# Altium integrated library Linear Technology Power Management Switching Regulator LTC1174-LTC3901.IntLib: 2647 symbols (part 270 of 364)
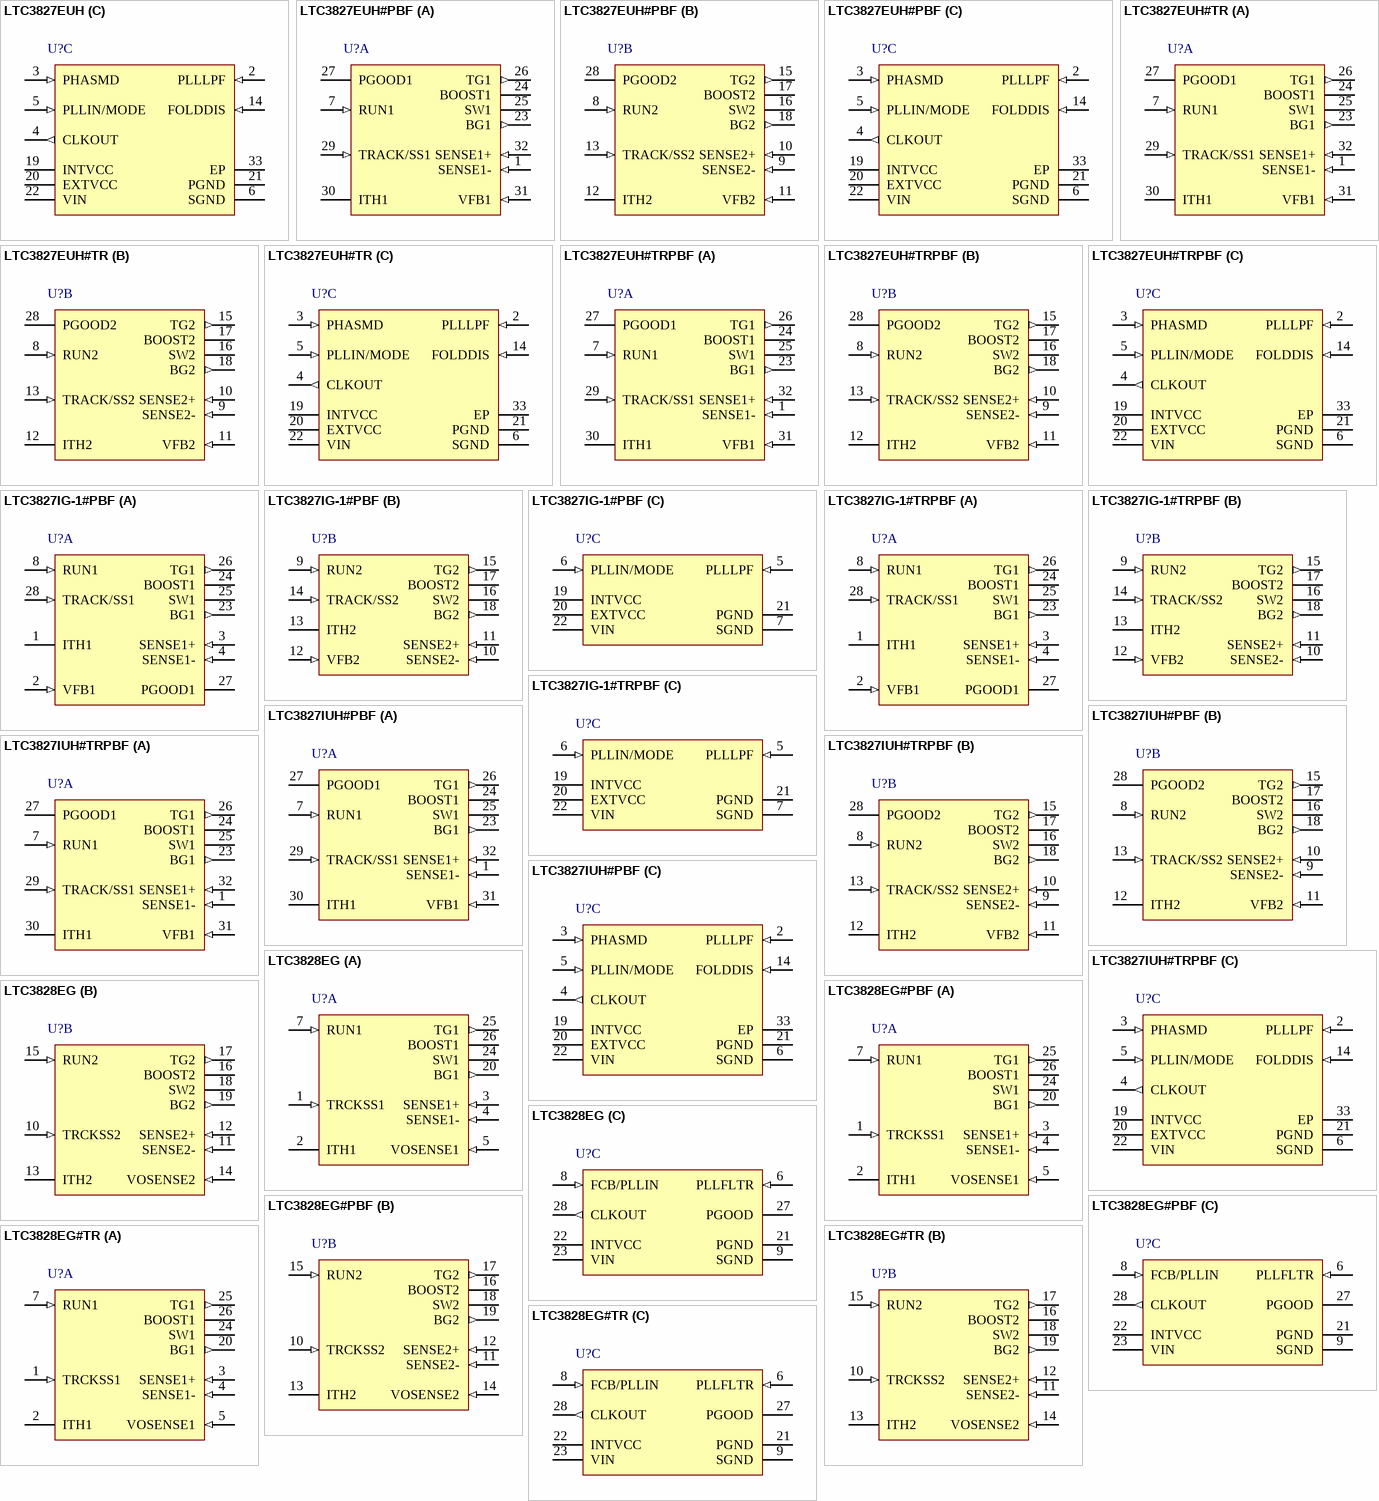
[diagram p255: symbols LTC3827EUH to LTC3828EG#TR]

## LTC3828EG#PBF
designator U?
Dual, 2-Phase Step-Down Controller with Tracking, 28-pin SOP (G-28), -40 to 85 degC, Pb-Free; Manufacturer: Linear Technology; PartNumber: LTC3828EG#PBF; Frequency Sync Range: 260kHz - 550kHz; Number of Outputs: 1; DatasheetVersion: Rev. C; PackageVersion: Jun-10; PackageReference: G-28; PackageDescription: 28-Pin Plastic SSOP, Body 10.2 x 5.3 mm, Pitch 0.65 mm; Supplier 1: Digi-Key; Supplier Part Number 1: LTC3828EG#PBF-ND; Supplier 2: Farnell; Supplier Part Number 2: 2295162; RoHS: TRUE; Mounting Technology: Surface Mount; ComponentLink1Description: Manufacturer URL; ComponentLink1URL: http://www.linear.com/; ComponentLink2Description: Datasheet; ComponentLink2URL: http://cds.linear.com/docs/en/datasheet/3828fc.pdf; ComponentLink3Description: Package Specification; ComponentLink3URL: http://cds.linear.com/docs/en/packaging/SSOP_28_05-08-1640.pdf
footprint LT-G-28_N (SOP, 28-Leads, Body 10.2x5.3mm, Pitch 0.65mm, IPC Medium Density)
footprint LT-G-28_L (SOP, 28-Leads, Body 10.2x5.3mm, Pitch 0.65mm, IPC High Density)
footprint LT-G-28_M (SOP, 28-Leads, Body 10.2x5.3mm, Pitch 0.65mm, IPC Low Density)
part A pins: 1 TRCKSS1 (in) "Soft-Start and Output Voltage Tracking Inputs. When one channel is confi gured to be the master of two outputs a capacitor to ground at this pin sets the ramp rate. The slave channel tracks the output of the master channel (See Datasheet)", 2 ITH1 "Error Amplifier Output and Switching Regulator Compensation Point. Each associated channels?current comparator trip point increases with this control voltage.", 3 SENSE1+ (in) "The (+) Input to the Differential Current Comparators. The ITH pin voltage and controlled offsets between the SENSE- and SENSE+ pins in conjunction with RSENSE set the current trip threshold.", 4 SENSE1- (in) "The (-) Input to the Differential Current Comparators.", 5 VOSENSE1 (in) "Error Amplifier Feedback Input. Receives the remotely-sensed feedback voltage for each controller from an external resistive divider across the output.", 7 RUN1 (in) "Run Control Inputs. Forcing RUN pins below 1V would shut down the circuitry required for that particular channel. Forcing the RUN pins over 2V would turn on the IC.", 20 BG1 (out) "High Current Gate Drives for Bottom (Synchronous) N-Channel MOSFETs. Voltage swing at these pins is from ground to INTVCC.", 24 SW1 "Switch Node Connections to Inductors. Voltage swing at these pins is from a Schottky diode (external) voltage drop below ground to VIN.", 25 TG1 (out) "High Current Gate Drives for Top N-Channel MOSFETs. These are the outputs of floating drivers with a voltage swing equal to INTVCC- 0.5V superimposed on the switch node voltage SW.", 26 BOOST1 "Bootstrapped Supplies to the Topside Floating Drivers. Capacitors are connected between the boost and switch pins and Schottky diodes are tied between the boost and INTVCC pins. Voltage swing at the boost pins is from INTVCC (See Datasheet)"
part B pins: 10 TRCKSS2 (in) "Soft-Start and Output Voltage Tracking Inputs. When one channel is configured to be the master of two outputs a capacitor to ground at this pin sets the ramp rate. The slave channel tracks the output of the master channel by (See Datasheet)", 11 SENSE2- (in) "The (-) Input to the Differential Current Comparators.", 12 SENSE2+ (in) "The (+) Input to the Differential Current Comparators. The ITH pin voltage and controlled offsets between the SENSE- and SENSE+ pins in conjunction with RSENSE set the current trip threshold.", 13 ITH2 "Error Amplifier Output and Switching Regulator Compensation Point. Each associated channels?current comparator trip point increases with this control voltage.", 14 VOSENSE2 (in) "Error Amplifier Feedback Input. Receives the remotely-sensed feedback voltage for each controller from an external resistive divider across the output.", 15 RUN2 (in) "Run Control Inputs. Forcing RUN pins below 1V would shut down the circuitry required for that particular channel. Forcing the RUN pins over 2V would turn on the IC.", 16 BOOST2 "Bootstrapped Supplies to the Topside Floating Drivers. Capacitors are connected between the boost and switch pins and Schottky diodes are tied between the boost and INTVCC pins. Voltage swing at the boost pins is from INTVCC (See Datasheet)", 17 TG2 (out) "High Current Gate Drives for Top N-Channel MOSFETs. These are the outputs of floating drivers with a voltage swing equal to INTVCC- 0.5V superimposed on the switch node voltage SW.", 18 SW2 "Switch Node Connections to Inductors. Voltage swing at these pins is from a Schottky diode (external) voltage drop below ground to VIN.", 19 BG2 (out) "High Current Gate Drives for Bottom (Synchronous) N-Channel MOSFETs. Voltage swing at these pins is from ground to INTVCC."
part C pins: 6 PLLFLTR (in) "Filter Connection for Phase-Locked Loop. Alternatively, this pin can be driven with an AC or DC voltage source to vary the frequency of the internal oscillator.", 8 FCB/PLLIN (in) "Forced Continuous Control Input and External Synchronization Input to Phase Detector. Pulling this pin below 0.8V will force continuous synchronous operation. Feeding an external clock signal will synchronize the LTC3828 to (See Datasheet)", 9 SGND (power) "Small-Signal Ground. Common to both controllers, this pin must be routed separately from high current grounds to the common (-) terminals of the COUT capacitors.", 21 PGND (power) "Driver Power Ground. Connects to the sources of bottom (synchronous) N-channel MOSFETs, anodes of the Schottky rectifiers and the (-) terminal(s) of CIN.", 22 INTVCC (power) "Output of the Internal 5V Linear Low Dropout Regulator. The driver and control circuits are powered from this voltage source. Must be decoupled to power ground with a minimum of 4.7uF tantalum or other low ESR capacitor.", 23 VIN (power) "Main Supply Pin. A bypass capacitor should be tied between this pin and the signal ground pin.", 27 PGOOD (oc) "Open-Drain Logic Output. PGOOD is pulled to ground when the voltage on either VOSENSE pin is not within +/-7.5% of its set point.", 28 CLKOUT (out) "Output clock signal available to daisy-chain other controller ICs for additional MOSFET driver stages/phases."

## LTC3828EG#TR
designator U?
Dual, 2-Phase Step-Down Controller with Tracking, 28-pin SOP (G-28), -40 to 85 degC, Tape and Reel; Manufacturer: Linear Technology; PartNumber: LTC3828EG#TR; Frequency Sync Range: 260kHz - 550kHz; Number of Outputs: 1; DatasheetVersion: Rev. C; PackageVersion: Jun-10; PackageReference: G-28; PackageDescription: 28-Pin Plastic SSOP, Body 10.2 x 5.3 mm, Pitch 0.65 mm; Packing: Tape and Reel; RoHS: FALSE; Mounting Technology: Surface Mount; ComponentLink1Description: Manufacturer URL; ComponentLink1URL: http://www.linear.com/; ComponentLink2Description: Datasheet; ComponentLink2URL: http://cds.linear.com/docs/en/datasheet/3828fc.pdf; ComponentLink3Description: Package Specification; ComponentLink3URL: http://cds.linear.com/docs/en/packaging/SSOP_28_05-08-1640.pdf
footprint LT-G-28_N (SOP, 28-Leads, Body 10.2x5.3mm, Pitch 0.65mm, IPC Medium Density)
footprint LT-G-28_L (SOP, 28-Leads, Body 10.2x5.3mm, Pitch 0.65mm, IPC High Density)
footprint LT-G-28_M (SOP, 28-Leads, Body 10.2x5.3mm, Pitch 0.65mm, IPC Low Density)
part A pins: 1 TRCKSS1 (in) "Soft-Start and Output Voltage Tracking Inputs. When one channel is confi gured to be the master of two outputs a capacitor to ground at this pin sets the ramp rate. The slave channel tracks the output of the master channel (See Datasheet)", 2 ITH1 "Error Amplifier Output and Switching Regulator Compensation Point. Each associated channels?current comparator trip point increases with this control voltage.", 3 SENSE1+ (in) "The (+) Input to the Differential Current Comparators. The ITH pin voltage and controlled offsets between the SENSE- and SENSE+ pins in conjunction with RSENSE set the current trip threshold.", 4 SENSE1- (in) "The (-) Input to the Differential Current Comparators.", 5 VOSENSE1 (in) "Error Amplifier Feedback Input. Receives the remotely-sensed feedback voltage for each controller from an external resistive divider across the output.", 7 RUN1 (in) "Run Control Inputs. Forcing RUN pins below 1V would shut down the circuitry required for that particular channel. Forcing the RUN pins over 2V would turn on the IC.", 20 BG1 (out) "High Current Gate Drives for Bottom (Synchronous) N-Channel MOSFETs. Voltage swing at these pins is from ground to INTVCC.", 24 SW1 "Switch Node Connections to Inductors. Voltage swing at these pins is from a Schottky diode (external) voltage drop below ground to VIN.", 25 TG1 (out) "High Current Gate Drives for Top N-Channel MOSFETs. These are the outputs of floating drivers with a voltage swing equal to INTVCC- 0.5V superimposed on the switch node voltage SW.", 26 BOOST1 "Bootstrapped Supplies to the Topside Floating Drivers. Capacitors are connected between the boost and switch pins and Schottky diodes are tied between the boost and INTVCC pins. Voltage swing at the boost pins is from INTVCC (See Datasheet)"
part B pins: 10 TRCKSS2 (in) "Soft-Start and Output Voltage Tracking Inputs. When one channel is configured to be the master of two outputs a capacitor to ground at this pin sets the ramp rate. The slave channel tracks the output of the master channel by (See Datasheet)", 11 SENSE2- (in) "The (-) Input to the Differential Current Comparators.", 12 SENSE2+ (in) "The (+) Input to the Differential Current Comparators. The ITH pin voltage and controlled offsets between the SENSE- and SENSE+ pins in conjunction with RSENSE set the current trip threshold.", 13 ITH2 "Error Amplifier Output and Switching Regulator Compensation Point. Each associated channels?current comparator trip point increases with this control voltage.", 14 VOSENSE2 (in) "Error Amplifier Feedback Input. Receives the remotely-sensed feedback voltage for each controller from an external resistive divider across the output.", 15 RUN2 (in) "Run Control Inputs. Forcing RUN pins below 1V would shut down the circuitry required for that particular channel. Forcing the RUN pins over 2V would turn on the IC.", 16 BOOST2 "Bootstrapped Supplies to the Topside Floating Drivers. Capacitors are connected between the boost and switch pins and Schottky diodes are tied between the boost and INTVCC pins. Voltage swing at the boost pins is from INTVCC (See Datasheet)", 17 TG2 (out) "High Current Gate Drives for Top N-Channel MOSFETs. These are the outputs of floating drivers with a voltage swing equal to INTVCC- 0.5V superimposed on the switch node voltage SW.", 18 SW2 "Switch Node Connections to Inductors. Voltage swing at these pins is from a Schottky diode (external) voltage drop below ground to VIN.", 19 BG2 (out) "High Current Gate Drives for Bottom (Synchronous) N-Channel MOSFETs. Voltage swing at these pins is from ground to INTVCC."
part C pins: 6 PLLFLTR (in) "Filter Connection for Phase-Locked Loop. Alternatively, this pin can be driven with an AC or DC voltage source to vary the frequency of the internal oscillator.", 8 FCB/PLLIN (in) "Forced Continuous Control Input and External Synchronization Input to Phase Detector. Pulling this pin below 0.8V will force continuous synchronous operation. Feeding an external clock signal will synchronize the LTC3828 to (See Datasheet)", 9 SGND (power) "Small-Signal Ground. Common to both controllers, this pin must be routed separately from high current grounds to the common (-) terminals of the COUT capacitors.", 21 PGND (power) "Driver Power Ground. Connects to the sources of bottom (synchronous) N-channel MOSFETs, anodes of the Schottky rectifiers and the (-) terminal(s) of CIN.", 22 INTVCC (power) "Output of the Internal 5V Linear Low Dropout Regulator. The driver and control circuits are powered from this voltage source. Must be decoupled to power ground with a minimum of 4.7uF tantalum or other low ESR capacitor.", 23 VIN (power) "Main Supply Pin. A bypass capacitor should be tied between this pin and the signal ground pin.", 27 PGOOD (oc) "Open-Drain Logic Output. PGOOD is pulled to ground when the voltage on either VOSENSE pin is not within +/-7.5% of its set point.", 28 CLKOUT (out) "Output clock signal available to daisy-chain other controller ICs for additional MOSFET driver stages/phases."

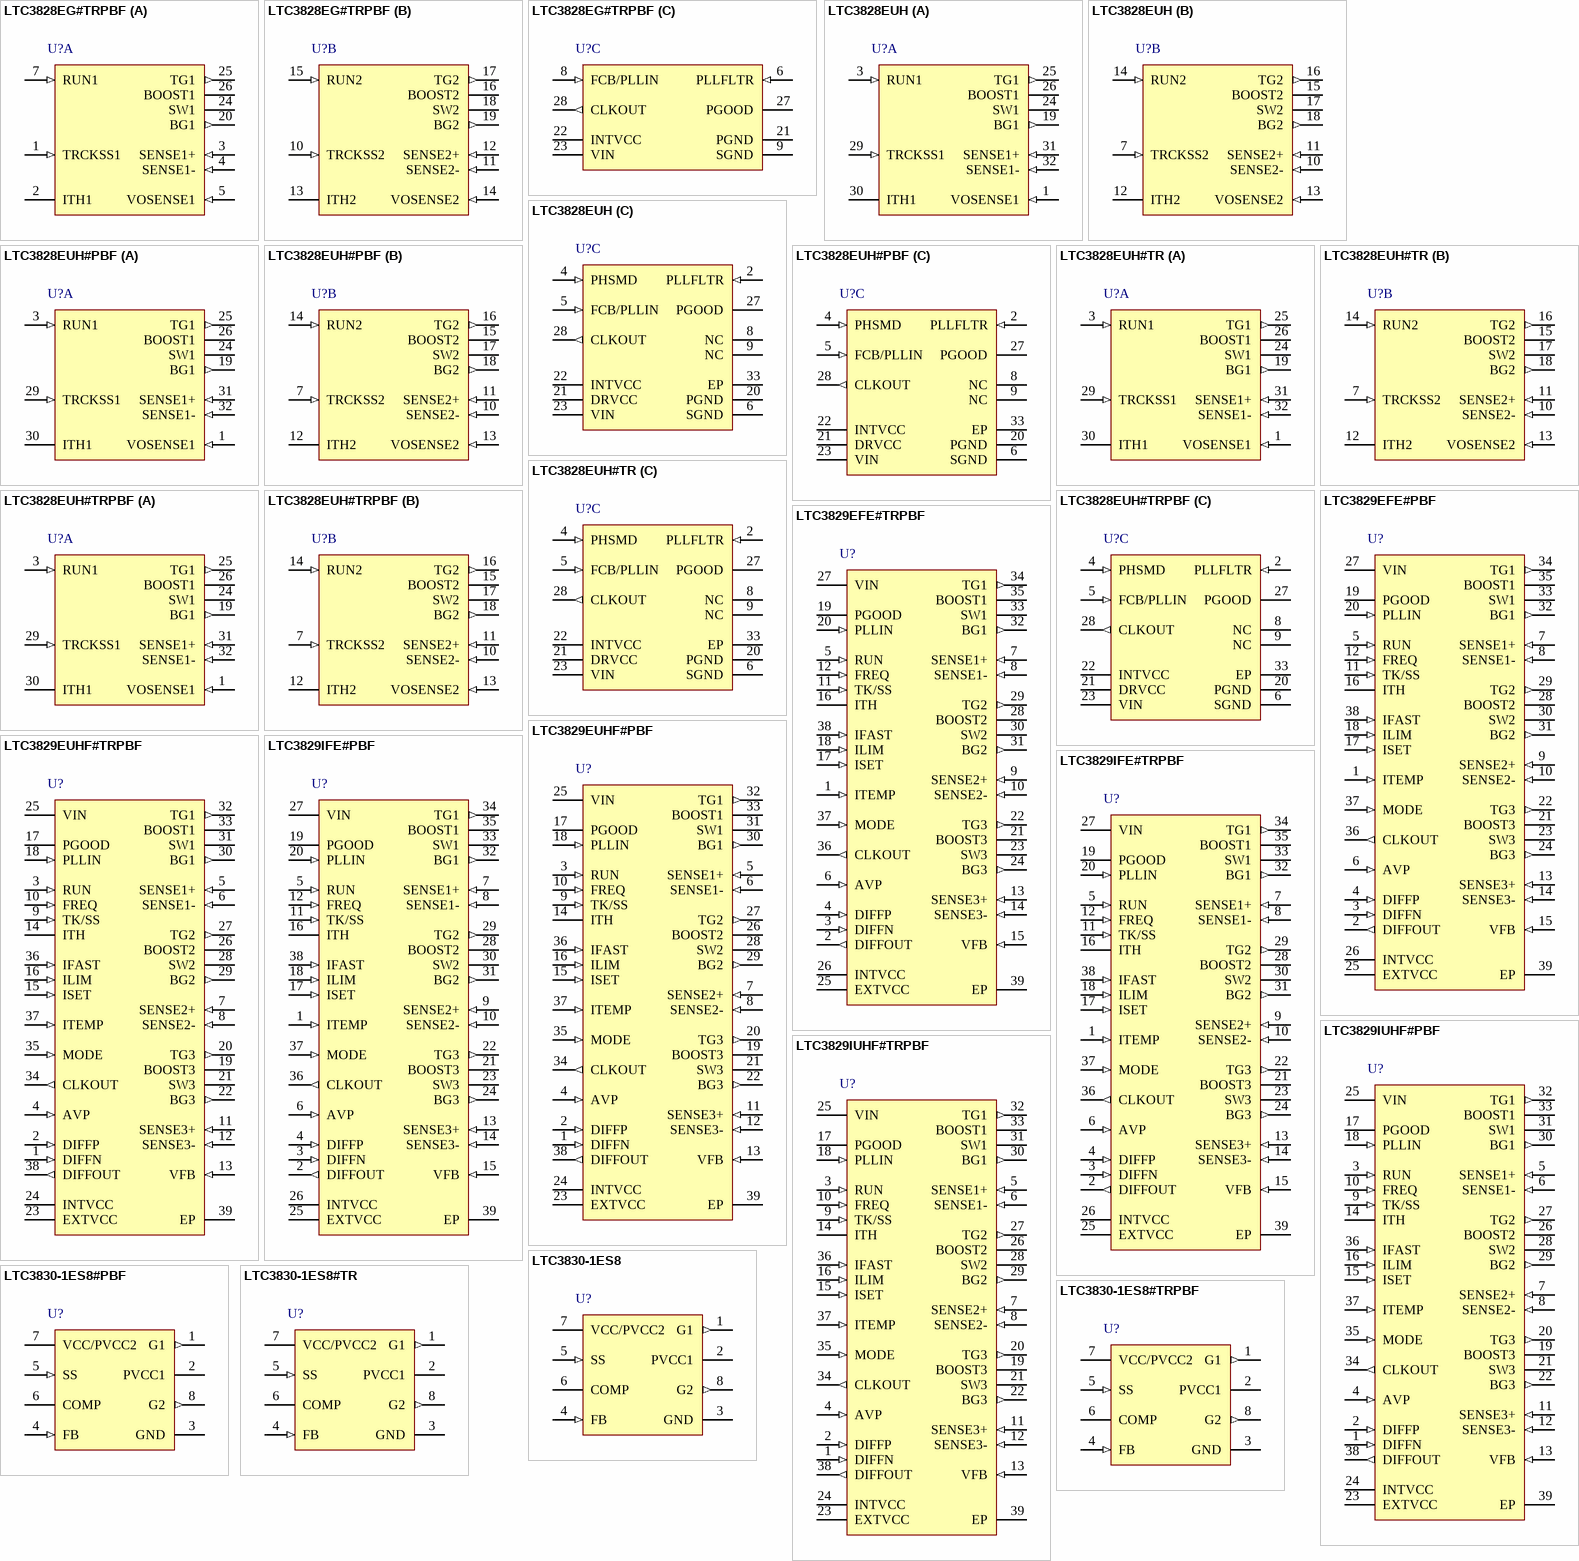
[diagram p84: symbols LTC3828EG#TRPBF to LTC3830-1ES8#TRPBF]

## LTC3828EG#TRPBF
designator U?
Dual, 2-Phase Step-Down Controller with Tracking, 28-pin SOP (G-28), -40 to 85 degC, Pb-Free, Tape and Reel; Manufacturer: Linear Technology; PartNumber: LTC3828EG#TRPBF; Frequency Sync Range: 260kHz - 550kHz; Number of Outputs: 1; DatasheetVersion: Rev. C; PackageVersion: Jun-10; PackageReference: G-28; PackageDescription: 28-Pin Plastic SSOP, Body 10.2 x 5.3 mm, Pitch 0.65 mm; Supplier 1: Digi-Key; Supplier Part Number 1: LTC3828EG#TRPBF-ND; Packing: Tape and Reel; RoHS: TRUE; Mounting Technology: Surface Mount; ComponentLink1Description: Manufacturer URL; ComponentLink1URL: http://www.linear.com/; ComponentLink2Description: Datasheet; ComponentLink2URL: http://cds.linear.com/docs/en/datasheet/3828fc.pdf; ComponentLink3Description: Package Specification; ComponentLink3URL: http://cds.linear.com/docs/en/packaging/SSOP_28_05-08-1640.pdf
footprint LT-G-28_N (SOP, 28-Leads, Body 10.2x5.3mm, Pitch 0.65mm, IPC Medium Density)
footprint LT-G-28_L (SOP, 28-Leads, Body 10.2x5.3mm, Pitch 0.65mm, IPC High Density)
footprint LT-G-28_M (SOP, 28-Leads, Body 10.2x5.3mm, Pitch 0.65mm, IPC Low Density)
part A pins: 1 TRCKSS1 (in) "Soft-Start and Output Voltage Tracking Inputs. When one channel is confi gured to be the master of two outputs a capacitor to ground at this pin sets the ramp rate. The slave channel tracks the output of the master channel (See Datasheet)", 2 ITH1 "Error Amplifier Output and Switching Regulator Compensation Point. Each associated channels?current comparator trip point increases with this control voltage.", 3 SENSE1+ (in) "The (+) Input to the Differential Current Comparators. The ITH pin voltage and controlled offsets between the SENSE- and SENSE+ pins in conjunction with RSENSE set the current trip threshold.", 4 SENSE1- (in) "The (-) Input to the Differential Current Comparators.", 5 VOSENSE1 (in) "Error Amplifier Feedback Input. Receives the remotely-sensed feedback voltage for each controller from an external resistive divider across the output.", 7 RUN1 (in) "Run Control Inputs. Forcing RUN pins below 1V would shut down the circuitry required for that particular channel. Forcing the RUN pins over 2V would turn on the IC.", 20 BG1 (out) "High Current Gate Drives for Bottom (Synchronous) N-Channel MOSFETs. Voltage swing at these pins is from ground to INTVCC.", 24 SW1 "Switch Node Connections to Inductors. Voltage swing at these pins is from a Schottky diode (external) voltage drop below ground to VIN.", 25 TG1 (out) "High Current Gate Drives for Top N-Channel MOSFETs. These are the outputs of floating drivers with a voltage swing equal to INTVCC- 0.5V superimposed on the switch node voltage SW.", 26 BOOST1 "Bootstrapped Supplies to the Topside Floating Drivers. Capacitors are connected between the boost and switch pins and Schottky diodes are tied between the boost and INTVCC pins. Voltage swing at the boost pins is from INTVCC (See Datasheet)"
part B pins: 10 TRCKSS2 (in) "Soft-Start and Output Voltage Tracking Inputs. When one channel is configured to be the master of two outputs a capacitor to ground at this pin sets the ramp rate. The slave channel tracks the output of the master channel by (See Datasheet)", 11 SENSE2- (in) "The (-) Input to the Differential Current Comparators.", 12 SENSE2+ (in) "The (+) Input to the Differential Current Comparators. The ITH pin voltage and controlled offsets between the SENSE- and SENSE+ pins in conjunction with RSENSE set the current trip threshold.", 13 ITH2 "Error Amplifier Output and Switching Regulator Compensation Point. Each associated channels?current comparator trip point increases with this control voltage.", 14 VOSENSE2 (in) "Error Amplifier Feedback Input. Receives the remotely-sensed feedback voltage for each controller from an external resistive divider across the output.", 15 RUN2 (in) "Run Control Inputs. Forcing RUN pins below 1V would shut down the circuitry required for that particular channel. Forcing the RUN pins over 2V would turn on the IC.", 16 BOOST2 "Bootstrapped Supplies to the Topside Floating Drivers. Capacitors are connected between the boost and switch pins and Schottky diodes are tied between the boost and INTVCC pins. Voltage swing at the boost pins is from INTVCC (See Datasheet)", 17 TG2 (out) "High Current Gate Drives for Top N-Channel MOSFETs. These are the outputs of floating drivers with a voltage swing equal to INTVCC- 0.5V superimposed on the switch node voltage SW.", 18 SW2 "Switch Node Connections to Inductors. Voltage swing at these pins is from a Schottky diode (external) voltage drop below ground to VIN.", 19 BG2 (out) "High Current Gate Drives for Bottom (Synchronous) N-Channel MOSFETs. Voltage swing at these pins is from ground to INTVCC."
part C pins: 6 PLLFLTR (in) "Filter Connection for Phase-Locked Loop. Alternatively, this pin can be driven with an AC or DC voltage source to vary the frequency of the internal oscillator.", 8 FCB/PLLIN (in) "Forced Continuous Control Input and External Synchronization Input to Phase Detector. Pulling this pin below 0.8V will force continuous synchronous operation. Feeding an external clock signal will synchronize the LTC3828 to (See Datasheet)", 9 SGND (power) "Small-Signal Ground. Common to both controllers, this pin must be routed separately from high current grounds to the common (-) terminals of the COUT capacitors.", 21 PGND (power) "Driver Power Ground. Connects to the sources of bottom (synchronous) N-channel MOSFETs, anodes of the Schottky rectifiers and the (-) terminal(s) of CIN.", 22 INTVCC (power) "Output of the Internal 5V Linear Low Dropout Regulator. The driver and control circuits are powered from this voltage source. Must be decoupled to power ground with a minimum of 4.7uF tantalum or other low ESR capacitor.", 23 VIN (power) "Main Supply Pin. A bypass capacitor should be tied between this pin and the signal ground pin.", 27 PGOOD (oc) "Open-Drain Logic Output. PGOOD is pulled to ground when the voltage on either VOSENSE pin is not within +/-7.5% of its set point.", 28 CLKOUT (out) "Output clock signal available to daisy-chain other controller ICs for additional MOSFET driver stages/phases."

## LTC3828EUH
designator U?
Dual, 2-Phase Step-Down Controller with Tracking, 32-pin QFN (UH-32), -40 to 85 degC; Manufacturer: Linear Technology; PartNumber: LTC3828EUH; Frequency Sync Range: 260kHz - 550kHz; Number of Outputs: 1; DatasheetVersion: Rev. C; PackageVersion: Rev. D, 06/2010; PackageReference: UH-32; PackageDescription: 32-Pin Plastic QFN, Body 5 x 5 mm, Pitch 0.5 mm; RoHS: FALSE; Mounting Technology: Surface Mount; Code_JEDEC: MO-220; ComponentLink1Description: Manufacturer URL; ComponentLink1URL: http://www.linear.com/; ComponentLink2Description: Datasheet; ComponentLink2URL: http://cds.linear.com/docs/en/datasheet/3828fc.pdf; ComponentLink3Description: Package Specification; ComponentLink3URL: http://cds.linear.com/docs/en/packaging/QFN_32_05-08-1693.pdf
footprint LT-UH-32_N (QFN, 32-Leads, Body 5.1x5.1mm, Pitch 0.5mm, Thermal Pad 3.45X3.45mm, IPC Medium Density)
footprint LT-UH-32_L (QFN, 32-Leads, Body 5.1x5.1mm, Pitch 0.5mm, Thermal Pad 3.45X3.45mm, IPC High Density)
footprint LT-UH-32_M (QFN, 32-Leads, Body 5.1x5.1mm, Pitch 0.5mm, Thermal Pad 3.45X3.45mm, IPC Low Density)
part A pins: 1 VOSENSE1 (in) "Error Amplifier Feedback Input. Receives the remotely-sensed feedback voltage for each controller from an external resistive divider across the output.", 3 RUN1 (in) "Run Control Inputs. Forcing RUN pins below 1V would shut down the circuitry required for that particular channel. Forcing the RUN pins over 2V would turn on the IC.", 19 BG1 (out) "High Current Gate Drives for Bottom (Synchronous) N-Channel MOSFETs. Voltage swing at these pins is from ground to INTVCC.", 24 SW1 "Switch Node Connections to Inductors. Voltage swing at these pins is from a Schottky diode (external) voltage drop below ground to VIN.", 25 TG1 (out) "High Current Gate Drives for Top N-Channel MOSFETs. These are the outputs of floating drivers with a voltage swing equal to INTVCC-0.5V superimposed on the switch node voltage SW.", 26 BOOST1 "Bootstrapped Supplies to the Topside Floating Drivers. Capacitors are connected between the boost and switch pins and Schottky diodes are tied between the boost and INTVCC pins. Voltage swing at the boost pins is from INTVCC (See Datasheet)", 29 TRCKSS1 (in) "Soft-Start and Output Voltage Tracking Inputs. When one channel is configured to be the master of two outputs a capacitor to ground at this pin sets the ramp rate. The slave channel tracks the output of the master channel by (See Datasheet)", 30 ITH1 "Error Amplifier Output and Switching Regulator Compensation Point. Each associated channels?current comparator trip point increases with this control voltage.", 31 SENSE1+ (in) "The (+) Input to the Differential Current Comparators. The ITH pin voltage and controlled offsets between the SENSE-and SENSE+ pins in conjunction with RSENSE set the current trip threshold.", 32 SENSE1- (in) "The (-) Input to the Differential Current Comparators."
part B pins: 7 TRCKSS2 (in) "Soft-Start and Output Voltage Tracking Inputs. When one channel is configured to be the master of two outputs a capacitor to ground at this pin sets the ramp rate. The slave channel tracks the output of the master channel by (See Datasheet)", 10 SENSE2- (in) "The (-) Input to the Differential Current Comparators.", 11 SENSE2+ (in) "The (+) Input to the Differential Current Comparators. The ITH pin voltage and controlled offsets between the SENSE-and SENSE+ pins in conjunction with RSENSE set the current trip threshold.", 12 ITH2 "Error Amplifier Output and Switching Regulator Compensation Point. Each associated channels?current comparator trip point increases with this control voltage.", 13 VOSENSE2 (in) "Error Amplifier Feedback Input. Receives the remotely-sensed feedback voltage for each controller from an external resistive divider across the output.", 14 RUN2 (in) "Run Control Inputs. Forcing RUN pins below 1V would shut down the circuitry required for that particular channel. Forcing the RUN pins over 2V would turn on the IC.", 15 BOOST2 "Bootstrapped Supplies to the Topside Floating Drivers. Capacitors are connected between the boost and switch pins and Schottky diodes are tied between the boost and INTVCC pins. Voltage swing at the boost pins is from INTVCC (See Datasheet)", 16 TG2 (out) "High Current Gate Drives for Top N-Channel MOSFETs. These are the outputs of floating drivers with a voltage swing equal to INTVCC-0.5V superimposed on the switch node voltage SW.", 17 SW2 "Switch Node Connections to Inductors. Voltage swing at these pins is from a Schottky diode (external) voltage drop below ground to VIN.", 18 BG2 (out) "High Current Gate Drives for Bottom (Synchronous) N-Channel MOSFETs. Voltage swing at these pins is from ground to INTVCC."
part C pins: 2 PLLFLTR (in) "Filter Connection for Phase-Locked Loop. Alternatively, this pin can be driven with an AC or DC voltage source to vary the frequency of the internal oscillator.", 4 PHSMD (in) "Control input to phase selector which determines the phase relationship between controller 1, controller 2 and the clockout signal.", 5 FCB/PLLIN (in) "Forced Continuous Control Input and External Synchronization Input to Phase Detector. Pulling this pin below 0.8V will force continuous synchronous operation. Feeding an external clock signal will synchronize the LTC3828 to (See Datasheet)", 6 SGND (power) "Small-Signal Ground. Common to both controllers, this pin must be routed separately from high current grounds to the common (-) terminals of the COUT capacitors.", 8 NC "These “no connect?pins are not tied internally to anything. On the PC layout, these pin landings should be connected to the SGND plane under the IC.", 9 NC "These “no connect?pins are not tied internally to anything. On the PC layout, these pin landings should be connected to the SGND plane under the IC.", 20 PGND (power) "Driver Power Ground. Connects to the sources of bottom (synchronous) N-channel MOSFETs, anodes of the Schottky rectifiers and the (-) terminal(s) of CIN.", 21 DRVCC (power) "External Power Input to Gate Drives. It can be connected with INTVCC together and use INTVCC as gate drives power supply.", 22 INTVCC (power) "Output of the Internal 5V Linear Low Dropout Regulator. The driver and control circuits are powered from this voltage source. Must be decoupled to power ground with a minimum of 4.7uF tantalum or other low ESR capacitor.", 23 VIN (power) "Main Supply Pin. A bypass capacitor should be tied between this pin and the signal ground pin.", 27 PGOOD (oc) "Open-Drain Logic Output. PGOOD is pulled to ground when the voltage on either VOSENSE pin is not within +/-7.5% of its set point.", 28 CLKOUT (out) "Output clock signal available to daisy-chain other controller ICs for additional MOSFET driver stages/phases.", 33 EP (power) "Signal Ground. Must be soldered to the PCB, providing a local ground for the control components of the IC, and be tied to the PGND pin under the IC."

## LTC3828EUH#PBF
designator U?
Dual, 2-Phase Step-Down Controller with Tracking, 32-pin QFN (UH-32), -40 to 85 degC, Pb-Free; Manufacturer: Linear Technology; PartNumber: LTC3828EUH#PBF; Frequency Sync Range: 260kHz - 550kHz; Number of Outputs: 1; DatasheetVersion: Rev. C; PackageVersion: Rev. D, 06/2010; PackageReference: UH-32; PackageDescription: 32-Pin Plastic QFN, Body 5 x 5 mm, Pitch 0.5 mm; Supplier 1: Digi-Key; Supplier Part Number 1: LTC3828EUH#PBF-ND; Supplier 2: Newark; Supplier Part Number 2: 56M8552; RoHS: TRUE; Mounting Technology: Surface Mount; Code_JEDEC: MO-220; ComponentLink1Description: Manufacturer URL; ComponentLink1URL: http://www.linear.com/; ComponentLink2Description: Datasheet; ComponentLink2URL: http://cds.linear.com/docs/en/datasheet/3828fc.pdf; ComponentLink3Description: Package Specification; ComponentLink3URL: http://cds.linear.com/docs/en/packaging/QFN_32_05-08-1693.pdf
footprint LT-UH-32_N (QFN, 32-Leads, Body 5.1x5.1mm, Pitch 0.5mm, Thermal Pad 3.45X3.45mm, IPC Medium Density)
footprint LT-UH-32_L (QFN, 32-Leads, Body 5.1x5.1mm, Pitch 0.5mm, Thermal Pad 3.45X3.45mm, IPC High Density)
footprint LT-UH-32_M (QFN, 32-Leads, Body 5.1x5.1mm, Pitch 0.5mm, Thermal Pad 3.45X3.45mm, IPC Low Density)
part A pins: 1 VOSENSE1 (in) "Error Amplifier Feedback Input. Receives the remotely-sensed feedback voltage for each controller from an external resistive divider across the output.", 3 RUN1 (in) "Run Control Inputs. Forcing RUN pins below 1V would shut down the circuitry required for that particular channel. Forcing the RUN pins over 2V would turn on the IC.", 19 BG1 (out) "High Current Gate Drives for Bottom (Synchronous) N-Channel MOSFETs. Voltage swing at these pins is from ground to INTVCC.", 24 SW1 "Switch Node Connections to Inductors. Voltage swing at these pins is from a Schottky diode (external) voltage drop below ground to VIN.", 25 TG1 (out) "High Current Gate Drives for Top N-Channel MOSFETs. These are the outputs of floating drivers with a voltage swing equal to INTVCC-0.5V superimposed on the switch node voltage SW.", 26 BOOST1 "Bootstrapped Supplies to the Topside Floating Drivers. Capacitors are connected between the boost and switch pins and Schottky diodes are tied between the boost and INTVCC pins. Voltage swing at the boost pins is from INTVCC (See Datasheet)", 29 TRCKSS1 (in) "Soft-Start and Output Voltage Tracking Inputs. When one channel is configured to be the master of two outputs a capacitor to ground at this pin sets the ramp rate. The slave channel tracks the output of the master channel by (See Datasheet)", 30 ITH1 "Error Amplifier Output and Switching Regulator Compensation Point. Each associated channels?current comparator trip point increases with this control voltage.", 31 SENSE1+ (in) "The (+) Input to the Differential Current Comparators. The ITH pin voltage and controlled offsets between the SENSE-and SENSE+ pins in conjunction with RSENSE set the current trip threshold.", 32 SENSE1- (in) "The (-) Input to the Differential Current Comparators."
part B pins: 7 TRCKSS2 (in) "Soft-Start and Output Voltage Tracking Inputs. When one channel is configured to be the master of two outputs a capacitor to ground at this pin sets the ramp rate. The slave channel tracks the output of the master channel by (See Datasheet)", 10 SENSE2- (in) "The (-) Input to the Differential Current Comparators.", 11 SENSE2+ (in) "The (+) Input to the Differential Current Comparators. The ITH pin voltage and controlled offsets between the SENSE-and SENSE+ pins in conjunction with RSENSE set the current trip threshold.", 12 ITH2 "Error Amplifier Output and Switching Regulator Compensation Point. Each associated channels?current comparator trip point increases with this control voltage.", 13 VOSENSE2 (in) "Error Amplifier Feedback Input. Receives the remotely-sensed feedback voltage for each controller from an external resistive divider across the output.", 14 RUN2 (in) "Run Control Inputs. Forcing RUN pins below 1V would shut down the circuitry required for that particular channel. Forcing the RUN pins over 2V would turn on the IC.", 15 BOOST2 "Bootstrapped Supplies to the Topside Floating Drivers. Capacitors are connected between the boost and switch pins and Schottky diodes are tied between the boost and INTVCC pins. Voltage swing at the boost pins is from INTVCC (See Datasheet)", 16 TG2 (out) "High Current Gate Drives for Top N-Channel MOSFETs. These are the outputs of floating drivers with a voltage swing equal to INTVCC-0.5V superimposed on the switch node voltage SW.", 17 SW2 "Switch Node Connections to Inductors. Voltage swing at these pins is from a Schottky diode (external) voltage drop below ground to VIN.", 18 BG2 (out) "High Current Gate Drives for Bottom (Synchronous) N-Channel MOSFETs. Voltage swing at these pins is from ground to INTVCC."
part C pins: 2 PLLFLTR (in) "Filter Connection for Phase-Locked Loop. Alternatively, this pin can be driven with an AC or DC voltage source to vary the frequency of the internal oscillator.", 4 PHSMD (in) "Control input to phase selector which determines the phase relationship between controller 1, controller 2 and the clockout signal.", 5 FCB/PLLIN (in) "Forced Continuous Control Input and External Synchronization Input to Phase Detector. Pulling this pin below 0.8V will force continuous synchronous operation. Feeding an external clock signal will synchronize the LTC3828 to (See Datasheet)", 6 SGND (power) "Small-Signal Ground. Common to both controllers, this pin must be routed separately from high current grounds to the common (-) terminals of the COUT capacitors.", 8 NC "These “no connect?pins are not tied internally to anything. On the PC layout, these pin landings should be connected to the SGND plane under the IC.", 9 NC "These “no connect?pins are not tied internally to anything. On the PC layout, these pin landings should be connected to the SGND plane under the IC.", 20 PGND (power) "Driver Power Ground. Connects to the sources of bottom (synchronous) N-channel MOSFETs, anodes of the Schottky rectifiers and the (-) terminal(s) of CIN.", 21 DRVCC (power) "External Power Input to Gate Drives. It can be connected with INTVCC together and use INTVCC as gate drives power supply.", 22 INTVCC (power) "Output of the Internal 5V Linear Low Dropout Regulator. The driver and control circuits are powered from this voltage source. Must be decoupled to power ground with a minimum of 4.7uF tantalum or other low ESR capacitor.", 23 VIN (power) "Main Supply Pin. A bypass capacitor should be tied between this pin and the signal ground pin.", 27 PGOOD (oc) "Open-Drain Logic Output. PGOOD is pulled to ground when the voltage on either VOSENSE pin is not within +/-7.5% of its set point.", 28 CLKOUT (out) "Output clock signal available to daisy-chain other controller ICs for additional MOSFET driver stages/phases.", 33 EP (power) "Signal Ground. Must be soldered to the PCB, providing a local ground for the control components of the IC, and be tied to the PGND pin under the IC."

## LTC3828EUH#TR
designator U?
Dual, 2-Phase Step-Down Controller with Tracking, 32-pin QFN (UH-32), -40 to 85 degC, Tape and Reel; Manufacturer: Linear Technology; PartNumber: LTC3828EUH#TR; Frequency Sync Range: 260kHz - 550kHz; Number of Outputs: 1; DatasheetVersion: Rev. C; PackageVersion: Rev. D, 06/2010; PackageReference: UH-32; PackageDescription: 32-Pin Plastic QFN, Body 5 x 5 mm, Pitch 0.5 mm; Packing: Tape and Reel; RoHS: FALSE; Mounting Technology: Surface Mount; Code_JEDEC: MO-220; ComponentLink1Description: Manufacturer URL; ComponentLink1URL: http://www.linear.com/; ComponentLink2Description: Datasheet; ComponentLink2URL: http://cds.linear.com/docs/en/datasheet/3828fc.pdf; ComponentLink3Description: Package Specification; ComponentLink3URL: http://cds.linear.com/docs/en/packaging/QFN_32_05-08-1693.pdf
footprint LT-UH-32_N (QFN, 32-Leads, Body 5.1x5.1mm, Pitch 0.5mm, Thermal Pad 3.45X3.45mm, IPC Medium Density)
footprint LT-UH-32_L (QFN, 32-Leads, Body 5.1x5.1mm, Pitch 0.5mm, Thermal Pad 3.45X3.45mm, IPC High Density)
footprint LT-UH-32_M (QFN, 32-Leads, Body 5.1x5.1mm, Pitch 0.5mm, Thermal Pad 3.45X3.45mm, IPC Low Density)
part A pins: 1 VOSENSE1 (in) "Error Amplifier Feedback Input. Receives the remotely-sensed feedback voltage for each controller from an external resistive divider across the output.", 3 RUN1 (in) "Run Control Inputs. Forcing RUN pins below 1V would shut down the circuitry required for that particular channel. Forcing the RUN pins over 2V would turn on the IC.", 19 BG1 (out) "High Current Gate Drives for Bottom (Synchronous) N-Channel MOSFETs. Voltage swing at these pins is from ground to INTVCC.", 24 SW1 "Switch Node Connections to Inductors. Voltage swing at these pins is from a Schottky diode (external) voltage drop below ground to VIN.", 25 TG1 (out) "High Current Gate Drives for Top N-Channel MOSFETs. These are the outputs of floating drivers with a voltage swing equal to INTVCC-0.5V superimposed on the switch node voltage SW.", 26 BOOST1 "Bootstrapped Supplies to the Topside Floating Drivers. Capacitors are connected between the boost and switch pins and Schottky diodes are tied between the boost and INTVCC pins. Voltage swing at the boost pins is from INTVCC (See Datasheet)", 29 TRCKSS1 (in) "Soft-Start and Output Voltage Tracking Inputs. When one channel is configured to be the master of two outputs a capacitor to ground at this pin sets the ramp rate. The slave channel tracks the output of the master channel by (See Datasheet)", 30 ITH1 "Error Amplifier Output and Switching Regulator Compensation Point. Each associated channels?current comparator trip point increases with this control voltage.", 31 SENSE1+ (in) "The (+) Input to the Differential Current Comparators. The ITH pin voltage and controlled offsets between the SENSE-and SENSE+ pins in conjunction with RSENSE set the current trip threshold.", 32 SENSE1- (in) "The (-) Input to the Differential Current Comparators."
part B pins: 7 TRCKSS2 (in) "Soft-Start and Output Voltage Tracking Inputs. When one channel is configured to be the master of two outputs a capacitor to ground at this pin sets the ramp rate. The slave channel tracks the output of the master channel by (See Datasheet)", 10 SENSE2- (in) "The (-) Input to the Differential Current Comparators.", 11 SENSE2+ (in) "The (+) Input to the Differential Current Comparators. The ITH pin voltage and controlled offsets between the SENSE-and SENSE+ pins in conjunction with RSENSE set the current trip threshold.", 12 ITH2 "Error Amplifier Output and Switching Regulator Compensation Point. Each associated channels?current comparator trip point increases with this control voltage.", 13 VOSENSE2 (in) "Error Amplifier Feedback Input. Receives the remotely-sensed feedback voltage for each controller from an external resistive divider across the output.", 14 RUN2 (in) "Run Control Inputs. Forcing RUN pins below 1V would shut down the circuitry required for that particular channel. Forcing the RUN pins over 2V would turn on the IC.", 15 BOOST2 "Bootstrapped Supplies to the Topside Floating Drivers. Capacitors are connected between the boost and switch pins and Schottky diodes are tied between the boost and INTVCC pins. Voltage swing at the boost pins is from INTVCC (See Datasheet)", 16 TG2 (out) "High Current Gate Drives for Top N-Channel MOSFETs. These are the outputs of floating drivers with a voltage swing equal to INTVCC-0.5V superimposed on the switch node voltage SW.", 17 SW2 "Switch Node Connections to Inductors. Voltage swing at these pins is from a Schottky diode (external) voltage drop below ground to VIN.", 18 BG2 (out) "High Current Gate Drives for Bottom (Synchronous) N-Channel MOSFETs. Voltage swing at these pins is from ground to INTVCC."
part C pins: 2 PLLFLTR (in) "Filter Connection for Phase-Locked Loop. Alternatively, this pin can be driven with an AC or DC voltage source to vary the frequency of the internal oscillator.", 4 PHSMD (in) "Control input to phase selector which determines the phase relationship between controller 1, controller 2 and the clockout signal.", 5 FCB/PLLIN (in) "Forced Continuous Control Input and External Synchronization Input to Phase Detector. Pulling this pin below 0.8V will force continuous synchronous operation. Feeding an external clock signal will synchronize the LTC3828 to (See Datasheet)", 6 SGND (power) "Small-Signal Ground. Common to both controllers, this pin must be routed separately from high current grounds to the common (-) terminals of the COUT capacitors.", 8 NC "These “no connect?pins are not tied internally to anything. On the PC layout, these pin landings should be connected to the SGND plane under the IC.", 9 NC "These “no connect?pins are not tied internally to anything. On the PC layout, these pin landings should be connected to the SGND plane under the IC.", 20 PGND (power) "Driver Power Ground. Connects to the sources of bottom (synchronous) N-channel MOSFETs, anodes of the Schottky rectifiers and the (-) terminal(s) of CIN.", 21 DRVCC (power) "External Power Input to Gate Drives. It can be connected with INTVCC together and use INTVCC as gate drives power supply.", 22 INTVCC (power) "Output of the Internal 5V Linear Low Dropout Regulator. The driver and control circuits are powered from this voltage source. Must be decoupled to power ground with a minimum of 4.7uF tantalum or other low ESR capacitor.", 23 VIN (power) "Main Supply Pin. A bypass capacitor should be tied between this pin and the signal ground pin.", 27 PGOOD (oc) "Open-Drain Logic Output. PGOOD is pulled to ground when the voltage on either VOSENSE pin is not within +/-7.5% of its set point.", 28 CLKOUT (out) "Output clock signal available to daisy-chain other controller ICs for additional MOSFET driver stages/phases.", 33 EP (power) "Signal Ground. Must be soldered to the PCB, providing a local ground for the control components of the IC, and be tied to the PGND pin under the IC."

## LTC3828EUH#TRPBF
designator U?
Dual, 2-Phase Step-Down Controller with Tracking, 32-pin QFN (UH-32), -40 to 85 degC, Pb-Free, Tape and Reel; Manufacturer: Linear Technology; PartNumber: LTC3828EUH#TRPBF; Frequency Sync Range: 260kHz - 550kHz; Number of Outputs: 1; DatasheetVersion: Rev. C; PackageVersion: Rev. D, 06/2010; PackageReference: UH-32; PackageDescription: 32-Pin Plastic QFN, Body 5 x 5 mm, Pitch 0.5 mm; Supplier 1: Digi-Key; Supplier Part Number 1: LTC3828EUH#TRPBF-ND; Supplier 2: Newark; Supplier Part Number 2: 56M8554; Packing: Tape and Reel; RoHS: TRUE; Mounting Technology: Surface Mount; Code_JEDEC: MO-220; ComponentLink1Description: Manufacturer URL; ComponentLink1URL: http://www.linear.com/; ComponentLink2Description: Datasheet; ComponentLink2URL: http://cds.linear.com/docs/en/datasheet/3828fc.pdf; ComponentLink3Description: Package Specification; ComponentLink3URL: http://cds.linear.com/docs/en/packaging/QFN_32_05-08-1693.pdf
footprint LT-UH-32_N (QFN, 32-Leads, Body 5.1x5.1mm, Pitch 0.5mm, Thermal Pad 3.45X3.45mm, IPC Medium Density)
footprint LT-UH-32_L (QFN, 32-Leads, Body 5.1x5.1mm, Pitch 0.5mm, Thermal Pad 3.45X3.45mm, IPC High Density)
footprint LT-UH-32_M (QFN, 32-Leads, Body 5.1x5.1mm, Pitch 0.5mm, Thermal Pad 3.45X3.45mm, IPC Low Density)
part A pins: 1 VOSENSE1 (in) "Error Amplifier Feedback Input. Receives the remotely-sensed feedback voltage for each controller from an external resistive divider across the output.", 3 RUN1 (in) "Run Control Inputs. Forcing RUN pins below 1V would shut down the circuitry required for that particular channel. Forcing the RUN pins over 2V would turn on the IC.", 19 BG1 (out) "High Current Gate Drives for Bottom (Synchronous) N-Channel MOSFETs. Voltage swing at these pins is from ground to INTVCC.", 24 SW1 "Switch Node Connections to Inductors. Voltage swing at these pins is from a Schottky diode (external) voltage drop below ground to VIN.", 25 TG1 (out) "High Current Gate Drives for Top N-Channel MOSFETs. These are the outputs of floating drivers with a voltage swing equal to INTVCC-0.5V superimposed on the switch node voltage SW.", 26 BOOST1 "Bootstrapped Supplies to the Topside Floating Drivers. Capacitors are connected between the boost and switch pins and Schottky diodes are tied between the boost and INTVCC pins. Voltage swing at the boost pins is from INTVCC (See Datasheet)", 29 TRCKSS1 (in) "Soft-Start and Output Voltage Tracking Inputs. When one channel is configured to be the master of two outputs a capacitor to ground at this pin sets the ramp rate. The slave channel tracks the output of the master channel by (See Datasheet)", 30 ITH1 "Error Amplifier Output and Switching Regulator Compensation Point. Each associated channels?current comparator trip point increases with this control voltage.", 31 SENSE1+ (in) "The (+) Input to the Differential Current Comparators. The ITH pin voltage and controlled offsets between the SENSE-and SENSE+ pins in conjunction with RSENSE set the current trip threshold.", 32 SENSE1- (in) "The (-) Input to the Differential Current Comparators."
part B pins: 7 TRCKSS2 (in) "Soft-Start and Output Voltage Tracking Inputs. When one channel is configured to be the master of two outputs a capacitor to ground at this pin sets the ramp rate. The slave channel tracks the output of the master channel by (See Datasheet)", 10 SENSE2- (in) "The (-) Input to the Differential Current Comparators.", 11 SENSE2+ (in) "The (+) Input to the Differential Current Comparators. The ITH pin voltage and controlled offsets between the SENSE-and SENSE+ pins in conjunction with RSENSE set the current trip threshold.", 12 ITH2 "Error Amplifier Output and Switching Regulator Compensation Point. Each associated channels?current comparator trip point increases with this control voltage.", 13 VOSENSE2 (in) "Error Amplifier Feedback Input. Receives the remotely-sensed feedback voltage for each controller from an external resistive divider across the output.", 14 RUN2 (in) "Run Control Inputs. Forcing RUN pins below 1V would shut down the circuitry required for that particular channel. Forcing the RUN pins over 2V would turn on the IC.", 15 BOOST2 "Bootstrapped Supplies to the Topside Floating Drivers. Capacitors are connected between the boost and switch pins and Schottky diodes are tied between the boost and INTVCC pins. Voltage swing at the boost pins is from INTVCC (See Datasheet)", 16 TG2 (out) "High Current Gate Drives for Top N-Channel MOSFETs. These are the outputs of floating drivers with a voltage swing equal to INTVCC-0.5V superimposed on the switch node voltage SW.", 17 SW2 "Switch Node Connections to Inductors. Voltage swing at these pins is from a Schottky diode (external) voltage drop below ground to VIN.", 18 BG2 (out) "High Current Gate Drives for Bottom (Synchronous) N-Channel MOSFETs. Voltage swing at these pins is from ground to INTVCC."
part C pins: 2 PLLFLTR (in) "Filter Connection for Phase-Locked Loop. Alternatively, this pin can be driven with an AC or DC voltage source to vary the frequency of the internal oscillator.", 4 PHSMD (in) "Control input to phase selector which determines the phase relationship between controller 1, controller 2 and the clockout signal.", 5 FCB/PLLIN (in) "Forced Continuous Control Input and External Synchronization Input to Phase Detector. Pulling this pin below 0.8V will force continuous synchronous operation. Feeding an external clock signal will synchronize the LTC3828 to (See Datasheet)", 6 SGND (power) "Small-Signal Ground. Common to both controllers, this pin must be routed separately from high current grounds to the common (-) terminals of the COUT capacitors.", 8 NC "These “no connect?pins are not tied internally to anything. On the PC layout, these pin landings should be connected to the SGND plane under the IC.", 9 NC "These “no connect?pins are not tied internally to anything. On the PC layout, these pin landings should be connected to the SGND plane under the IC.", 20 PGND (power) "Driver Power Ground. Connects to the sources of bottom (synchronous) N-channel MOSFETs, anodes of the Schottky rectifiers and the (-) terminal(s) of CIN.", 21 DRVCC (power) "External Power Input to Gate Drives. It can be connected with INTVCC together and use INTVCC as gate drives power supply.", 22 INTVCC (power) "Output of the Internal 5V Linear Low Dropout Regulator. The driver and control circuits are powered from this voltage source. Must be decoupled to power ground with a minimum of 4.7uF tantalum or other low ESR capacitor.", 23 VIN (power) "Main Supply Pin. A bypass capacitor should be tied between this pin and the signal ground pin.", 27 PGOOD (oc) "Open-Drain Logic Output. PGOOD is pulled to ground when the voltage on either VOSENSE pin is not within +/-7.5% of its set point.", 28 CLKOUT (out) "Output clock signal available to daisy-chain other controller ICs for additional MOSFET driver stages/phases.", 33 EP (power) "Signal Ground. Must be soldered to the PCB, providing a local ground for the control components of the IC, and be tied to the PGND pin under the IC."